# Altium footprint library CONN - ARDUINO_CONNECTOR.PcbLib: 1 footprints
Each footprint in its own frame and in the unit in brackets; x right, y up, seen from the top. Pads: shape width x height; smd on the part's side, far side on the other; paste and mask are expansions set on the pad; w line width, h text height; cw(c..) or ccw(c..) is an arc to the next point about the centre after c.
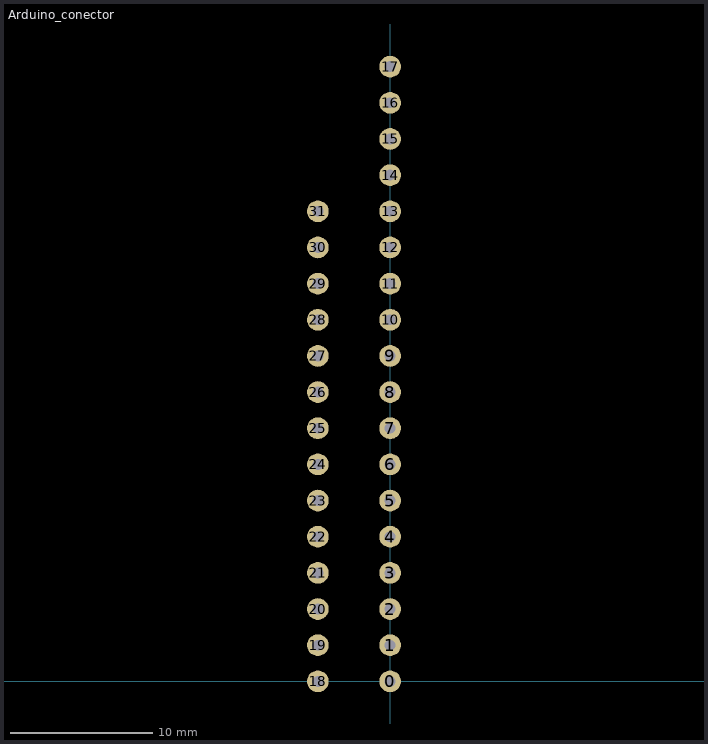
[diagram p0: the footprint, top view; thin cyan lines are the x and y axes]

## Arduino_conector [mil]
pads (32):
  round 60 hole 30: 0(0,0) 1(0,100) 2(0,200) 3(0,300) 4(0,400) 5(0,500) 6(0,600) 7(0,700) 8(0,800) 9(0,900) 10(0,1000) 11(0,1100) 12(0,1200) 13(0,1300) 14(0,1400) 15(0,1500) 16(0,1600) 17(0,1700) 18(-200,0) 19(-200,100) 20(-200,200) 21(-200,300) 22(-200,400) 23(-200,500) 24(-200,600) 25(-200,700) 26(-200,800) 27(-200,900) 28(-200,1000) 29(-200,1100) 30(-200,1200) 31(-200,1300)